# EAGLE library part GLONASHA (library barthess)
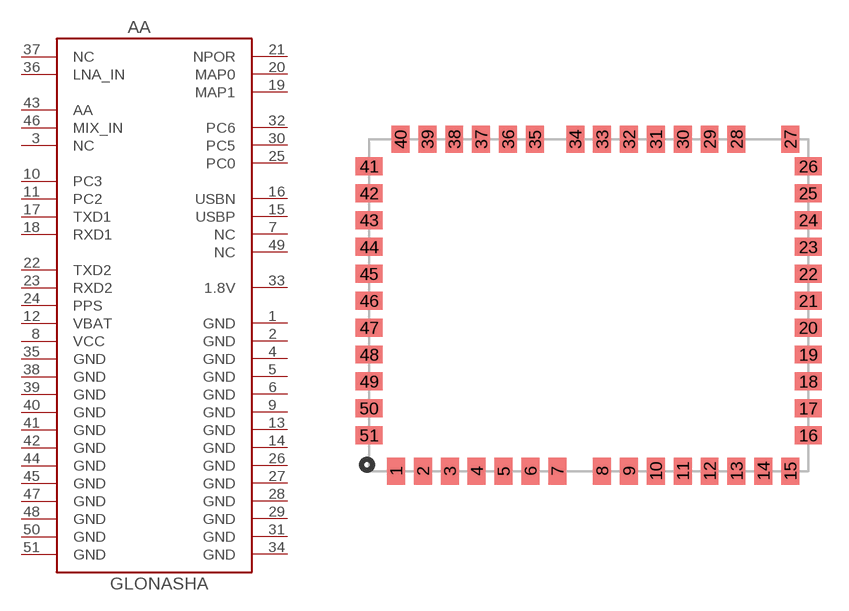
[diagram p38: symbol with the pads of GLONASHA; footprint GLONASHA]

Designator prefix AA

## GLONASHA  [GLONASHA]
1  GND  pwr
2  GND  pwr
3  NC  nc
4  GND  pwr
5  GND  pwr
6  GND  pwr
7  NC
8  VCC  pwr
9  GND  pwr
10  PC3
11  PC2
12  VBAT  pwr
13  GND  pwr
14  GND  pwr
15  USBP
16  USBN
17  TXD1  out
18  RXD1  in
19  MAP1
20  MAP0
21  NPOR  in
22  TXD2  out
23  RXD2  in
24  PPS  out
25  PC0
26  GND  pwr
27  GND  pwr
28  GND  pwr
29  GND  pwr
30  PC5
31  GND  pwr
32  PC6
33  1.8V  pwr
34  GND  pwr
35  GND  pwr
36  LNA_IN  in
37  NC  nc
38  GND  pwr
39  GND  pwr
40  GND  pwr
41  GND  pwr
42  GND  pwr
43  AA  in
44  GND  pwr
45  GND  pwr
46  MIX_IN  nc
47  GND  pwr
48  GND  pwr
49  NC
50  GND  pwr
51  GND  pwr

## Footprint GLONASHA (pad centres in mm)
smd 1 x 1.5: 1 -12,-9; 2 -10.5,-9; 3 -9,-9; 4 -7.5,-9; 5 -6,-9; 6 -4.5,-9; 7 -3,-9; 8 -0.5,-9; 9 1,-9; 10 2.5,-9; 11 4,-9; 12 5.5,-9; 13 7,-9; 14 8.5,-9; 15 10,-9; 27 10,9.5; 28 7,9.5; 29 5.5,9.5; 30 4,9.5; 31 2.5,9.5; 32 1,9.5; 33 -0.5,9.5; 34 -2,9.5; 35 -4.25,9.5; 36 -5.75,9.5; 37 -7.25,9.5; 38 -8.75,9.5; 39 -10.25,9.5; 40 -11.75,9.5
smd 1.5 x 1: 16 11,-7; 17 11,-5.5; 18 11,-4; 19 11,-2.5; 20 11,-1; 21 11,0.5; 22 11,2; 23 11,3.5; 24 11,5; 25 11,6.5; 26 11,8; 41 -13.5,8; 42 -13.5,6.5; 43 -13.5,5; 44 -13.5,3.5; 45 -13.5,2; 46 -13.5,0.5; 47 -13.5,-1; 48 -13.5,-2.5; 49 -13.5,-4; 50 -13.5,-5.5; 51 -13.5,-7